# Altium footprint library Pattern No3d 20090609.PcbLib: 323 footprints (part 15 of 22)
Each footprint in its own frame and in the unit in brackets; x right, y up, seen from the top. Pads: shape width x height; smd on the part's side, far side on the other; paste and mask are expansions set on the pad; w line width, h text height; cw(c..) or ccw(c..) is an arc to the next point about the centre after c.
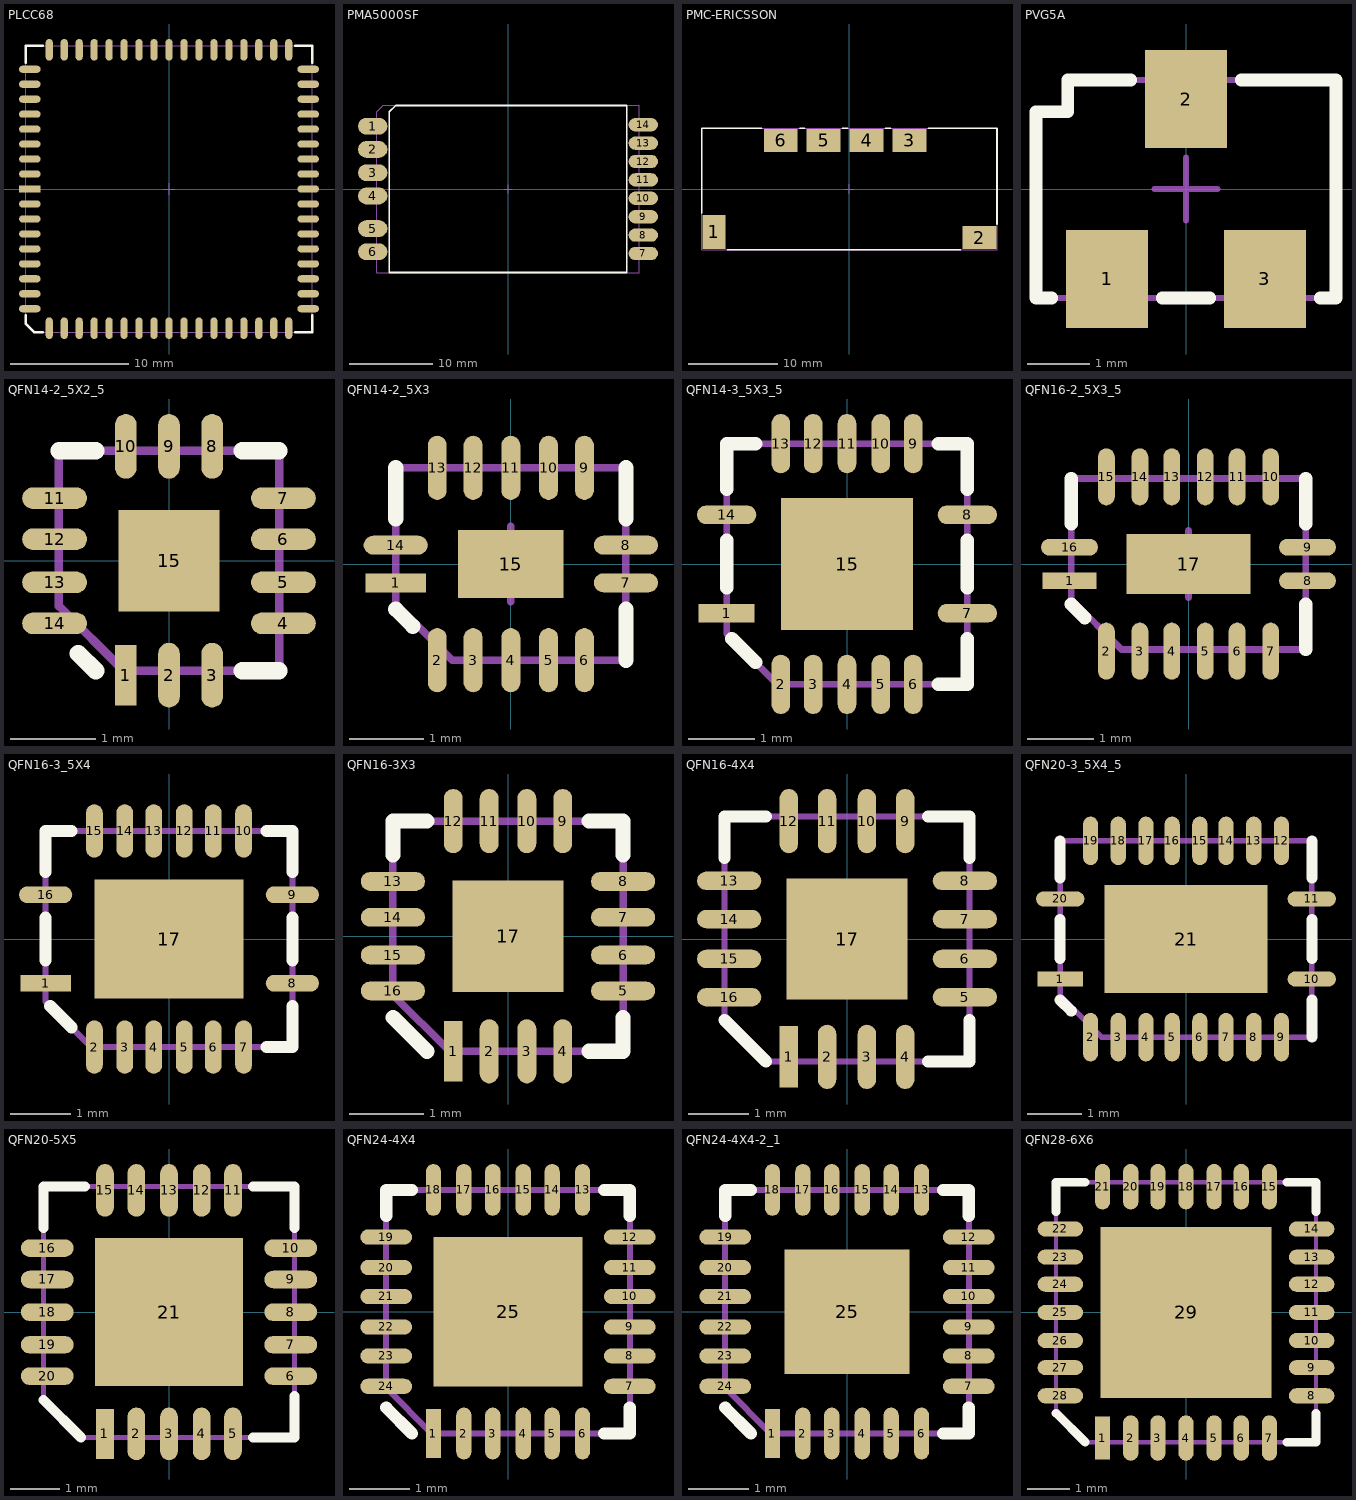
[diagram p14: the footprints below, top view; thin cyan lines are the x and y axes]

## PLCC68 [mil] "http://www.nxp.com/acrobat_download/packages/SOT188-2.pdf"
pads (68):
  rect 72x24 smd mask+4: 1(-465,0)
  oval 72x24 smd mask+4: 2(-465,-50) 3(-465,-100) 4(-465,-150) 5(-465,-200) 6(-465,-250) 7(-465,-300) 8(-465,-350) 9(-465,-400) 27(465,-400) 28(465,-350) 29(465,-300) 30(465,-250) 31(465,-200) 32(465,-150) 33(465,-100) 34(465,-50) 35(465,0) 36(465,50) 37(465,100) 38(465,150) 39(465,200) 40(465,250) 41(465,300) 42(465,350) 43(465,400) 61(-465,400) 62(-465,350) 63(-465,300) 64(-465,250) 65(-465,200) 66(-465,150) 67(-465,100) 68(-465,50)
  oval 24x72 smd mask+4: 10(-400,-465) 11(-350,-465) 12(-300,-465) 13(-250,-465) 14(-200,-465) 15(-150,-465) 16(-100,-465) 17(-50,-465) 18(0,-465) 19(50,-465) 20(100,-465) 21(150,-465) 22(200,-465) 23(250,-465) 24(300,-465) 25(350,-465) 26(400,-465) 44(400,465) 45(350,465) 46(300,465) 47(250,465) 48(200,465) 49(150,465) 50(100,465) 51(50,465) 52(0,465) 53(-50,465) 54(-100,465) 55(-150,465) 56(-200,465) 57(-250,465) 58(-300,465) 59(-350,465) 60(-400,465)
Top Overlay:
  lines w8: -479,-421 -479,-449 -449,-479 -421,-479 ; -479,421 -479,479 -421,479 ; 421,-479 479,-479 479,-421 ; 421,479 479,479 479,421
Mechanical 1:
  lines w4: -479,-449 -479,479 479,479 479,-479 -449,-479 -479,-449
Mechanical 15:
  lines w4: -20,0 20,0 ; 0,-20 0,20

## PMA5000SF [mil] "http://sysdoc.doors.ch/ERICSSON/npo_pma_r1d_0803.pdf"
pads (14):
  oval 139x79 smd mask+4: 1(-640,297) 2(-640,187) 3(-640,77) 4(-640,-33) 5(-640,-187) 6(-640,-297)
  oval 139x63 smd mask+4: 7(640,-305) 8(640,-218) 9(640,-131) 10(640,-44) 11(640,43) 12(640,130) 13(640,217) 14(640,304)
Top Overlay:
  lines w8: -561,-395 561,-395 561,395 -531,395 -561,365 -561,-395
Mechanical 1:
  lines w4: -620,-395 620,-395 620,395 -590,395 -620,365 -620,-395
Mechanical 15:
  lines w4: -20,0 20,0 ; 0,-20 0,20

## PMC-ERICSSON [mil] "http://archive.ericsson.net/service/internet/picov/get?DocNo=28701-EN/LZT146055&Lang=EN&HighestFree=Y"
pads (6):
  rect 102x150 smd mask+4: 1(-600,-190)
  rect 150x102 smd mask+4: 2(576,-215) 3(266,215) 4(76,215) 5(-114,215) 6(-304,215)
Top Overlay:
  lines w8: -654,-106 -654,269 -388,269 ; -540,-269 492,-269 ; -220,269 -198,269 ; -30,269 -8,269 ; 160,269 182,269 ; 350,269 654,269 654,-155
Mechanical 1:
  lines w4: -654,-269 -654,269 654,269 654,-269 -654,-269
Mechanical 15:
  lines w4: -20,0 20,0 ; 0,-20 0,20

## PVG5A [mil] "http://www.murata.com/catalog/r50e.pdf (PVG5A)"
pads (3):
  rect 52x62 smd mask+4: 1(-50,-57) 2(0,57) 3(50,-57)
Top Overlay:
  lines w8: -85,-69 -95,-69 -95,49 -75,49 -75,69 -35,69 ; -15,-69 15,-69 ; 35,69 95,69 95,-69 85,-69
Mechanical 1:
  lines w4: -95,-69 -95,49 -75,49 -75,69 95,69 95,-69 -95,-69
Mechanical 15:
  lines w4: -20,0 20,0 ; 0,-20 0,20

## QFN14-2_5X2_5 [mil] "http://www.nxp.com/acrobat_download/packages/SOT773-1.pdf"
pads (15):
  rect 10x28 smd mask-1000: 1(-20,-53)
  oval 10x30 smd mask-1000: 2(0,-53) 3(20,-53) 8(20,53) 9(0,53) 10(-20,53)
  oval 30x10 smd mask-1000: 4(53,-29) 5(53,-10) 6(53,10) 7(53,29) 11(-53,29) 12(-53,10) 13(-53,-10) 14(-53,-29)
  rect 47x47 smd paste-13 mask+3: 15(0,0)
Top Overlay:
  lines w8: -51,51 -34,51 ; -42,-43 -34,-51 ; 34,-51 51,-51 ; 34,51 51,51
Top Solder:
  region: -29,-35 -29,-71 -13,-71 -13,-35
  lines w13: -65,-10 -41,-10 ; -65,10 -41,10 ; 0,-65 0,-41 ; 0,41 0,65 ; 41,-10 65,-10 ; 41,10 65,10
  lines w15: -64,-30 -42,-30 ; -64,30 -42,30 ; -21,42 -21,64 ; 21,-64 21,-42 ; 21,42 21,64 ; 42,-30 64,-30 ; 42,30 64,30
Mechanical 1:
  lines w4: -51,-21 -21,-51 51,-51 51,51 -51,51 -51,-21
Mechanical 15:
  lines w4: -20,0 20,0 ; 0,-20 0,20

## QFN14-2_5X3 [mil] "http://www.nxp.com/acrobat_download/packages/SOT762-1.pdf"
pads (15):
  rect 32x10 smd mask-1000: 1(-61,-10)
  oval 10x34 smd mask-1000: 2(-39,-51) 3(-20,-51) 4(0,-51) 5(20,-51) 6(39,-51) 9(39,51) 10(20,51) 11(0,51) 12(-20,51) 13(-39,51)
  oval 34x10 smd mask-1000: 7(61,-10) 8(61,10) 14(-61,10)
  rect 56x36 smd paste-1000 mask+3: 15(0,0)
Top Overlay:
  lines w8: -61,-24 -52,-33 ; -61,24 -61,51 ; 61,-51 61,-24 ; 61,24 61,51
Top Paste:
  region: -12,-8 12,-8 12,8 -12,8
Top Solder:
  region: -81,-19 -41,-19 -41,-3 -81,-3
  lines w13: -20,-65 -20,-37 ; -20,37 -20,65 ; 0,-65 0,-37 ; 0,37 0,65 ; 20,-65 20,-37 ; 20,37 20,65
  lines w15: -74,11 -48,11 ; -40,-64 -40,-38 ; -40,38 -40,64 ; 40,-64 40,-38 ; 40,38 40,64 ; 48,-11 74,-11 ; 48,11 74,11
Mechanical 1:
  lines w4: -61,-21 -31,-51 61,-51 61,51 -61,51 -61,-21
Mechanical 15:
  lines w4: -20,0 20,0 ; 0,-20 0,20

## QFN14-3_5X3_5 [mil] "http://focus.ti.com/lit/ml/mpqf114e/mpqf114e.pdf"
pads (15):
  rect 33x11 smd mask+4: 1(-71,-29)
  oval 11x35 smd mask-1000: 2(-39,-71) 3(-20,-71) 4(0,-71) 5(20,-71) 6(39,-71) 9(39,71) 10(20,71) 11(0,71) 12(-20,71) 13(-39,71)
  oval 35x11 smd mask+4: 7(71,-29) 8(71,29) 14(-71,29)
  rect 78x78 smd paste-1000 mask+3: 15(0,0)
Top Overlay:
  lines w8: -71,-14 -71,14 ; -71,44 -71,71 -54,71 ; -68,-44 -54,-58 ; 54,-71 71,-71 71,-44 ; 54,71 71,71 71,44 ; 71,-14 71,14
Top Paste:
  region: -24,-24 -6,-24 -6,-6 -24,-6
  region: 6,-6 6,-24 24,-24 24,-6
  region: 6,24 6,6 24,6 24,24
  region: -24,6 -6,6 -6,24 -24,24
Top Solder:
  lines w14: -20,-85 -20,-57 ; -20,57 -20,85 ; 0,-85 0,-57 ; 0,57 0,85 ; 20,-85 20,-57 ; 20,57 20,85
  lines w15: -40,-85 -40,-57 ; -40,57 -40,85 ; 40,-85 40,-57 ; 40,57 40,85
Mechanical 1:
  lines w4: -71,-41 -71,71 71,71 71,-71 -41,-71 -71,-41
Mechanical 15:
  lines w4: -20,0 20,0 ; 0,-20 0,20

## QFN16-2_5X3_5 [mil] "http://www.nxp.com/acrobat_download/packages/SOT763-1.pdf"
pads (17):
  rect 32x10 smd mask-1000: 1(-71,-10)
  oval 10x34 smd mask-1000: 2(-49,-52) 3(-29,-52) 4(-10,-52) 5(10,-52) 6(29,-52) 7(49,-52) 10(49,52) 11(29,52) 12(10,52) 13(-10,52) 14(-29,52) 15(-49,52)
  oval 34x10 smd mask-1000: 8(71,-10) 9(71,10) 16(-71,10)
  rect 74x36 smd paste-1000 mask+3: 17(0,0)
Top Overlay:
  lines w8: -70,-24 -62,-32 ; -70,24 -70,51 ; 70,-51 70,-24 ; 70,24 70,51
Top Paste:
  region: -22,8 -22,-8 -6,-8 -6,8
  region: 6,8 6,-8 22,-8 22,8
Top Solder:
  region: -91,-19 -51,-19 -51,-3 -91,-3
  lines w13: -29,-66 -29,-38 ; -29,38 -29,66 ; -10,-66 -10,-38 ; -10,38 -10,66 ; 10,-66 10,-38 ; 10,38 10,66 ; 29,-66 29,-38 ; 29,38 29,66
  lines w15: -84,11 -58,11 ; -50,-65 -50,-39 ; -50,39 -50,65 ; 50,-65 50,-39 ; 50,39 50,65 ; 58,-11 84,-11 ; 58,11 84,11
Mechanical 1:
  lines w4: -70,-21 -70,51 70,51 70,-51 -40,-51 -70,-21
Mechanical 15:
  lines w4: -20,0 20,0 ; 0,-20 0,20

## QFN16-3_5X4 [mil] "http://focus.ti.com/lit/ml/mpqf115e/mpqf115e.pdf"
pads (17):
  rect 33x11 smd mask+4: 1(-81,-29)
  oval 11x35 smd mask-1000: 2(-49,-71) 3(-29,-71) 4(-10,-71) 5(10,-71) 6(29,-71) 7(49,-71) 10(49,71) 11(29,71) 12(10,71) 13(-10,71) 14(-29,71) 15(-49,71)
  oval 35x11 smd mask+4: 8(81,-29) 9(81,29) 16(-81,29)
  rect 98x78 smd paste-1000 mask+3: 17(0,0)
Top Overlay:
  lines w8: -81,-14 -81,14 ; -81,44 -81,71 -64,71 ; -78,-44 -64,-58 ; 64,-71 81,-71 81,-44 ; 64,71 81,71 81,44 ; 81,-14 81,14
Top Paste:
  region: -30,-24 -8,-24 -8,-6 -30,-6
  region: 8,-24 30,-24 30,-6 8,-6
  region: 8,6 30,6 30,24 8,24
  region: -30,6 -8,6 -8,24 -30,24
Top Solder:
  lines w13: -29,-86 -29,-56 ; -29,56 -29,86 ; -10,-86 -10,-56 ; -10,56 -10,86 ; 10,-86 10,-56 ; 10,56 10,86 ; 29,-86 29,-56 ; 29,56 29,86
  lines w15: -50,-85 -50,-57 ; -50,57 -50,85 ; 50,-85 50,-57 ; 50,57 50,85
Mechanical 1:
  lines w4: -81,-41 -51,-71 81,-71 81,71 -81,71 -81,-41
Mechanical 15:
  lines w4: -20,0 20,0 ; 0,-20 0,20

## QFN16-3X3 [mil] "http://www.nxp.com/acrobat_download/packages/SOT758-1.pdf"
pads (17):
  rect 10x32 smd mask-1000: 1(-29,-61)
  oval 10x34 smd mask-1000: 2(-10,-61) 3(10,-61) 4(29,-61) 9(29,61) 10(10,61) 11(-10,61) 12(-29,61)
  oval 34x10 smd mask-1000: 5(61,-29) 6(61,-10) 7(61,10) 8(61,29) 13(-61,29) 14(-61,10) 15(-61,-10) 16(-61,-29)
  rect 59x59 smd paste-1000 mask+3: 17(0,0)
Top Overlay:
  lines w8: -61,-43 -43,-61 ; -61,43 -61,61 -43,61 ; 43,-61 61,-61 61,-43 ; 43,61 61,61 61,43
Top Paste:
  region: -13,13 -13,-13 13,-13 13,13
Top Solder:
  region: -22,-81 -22,-41 -38,-41 -38,-81
  lines w13: -75,-10 -47,-10 ; -75,10 -47,10 ; -10,-75 -10,-47 ; -10,47 -10,75 ; 10,-75 10,-47 ; 10,47 10,75 ; 47,-10 75,-10 ; 47,10 75,10
  lines w15: -74,-30 -48,-30 ; -74,30 -48,30 ; -30,48 -30,74 ; 30,-74 30,-48 ; 30,48 30,74 ; 48,-30 74,-30 ; 48,30 74,30
Mechanical 1:
  lines w4: -61,-31 -61,61 61,61 61,-61 -31,-61 -61,-31
Mechanical 15:
  lines w4: -20,0 20,0 ; 0,-20 0,20

## QFN16-4X4 [mil] "http://www.nxp.com/acrobat_download/packages/SOT629-1.pdf"
pads (17):
  rect 12x40 smd mask+3: 1(-38,-77)
  oval 12x42 smd mask+3: 2(-13,-77) 3(13,-77) 4(38,-77) 9(38,77) 10(13,77) 11(-13,77) 12(-38,77)
  oval 42x12 smd mask+3: 5(77,-38) 6(77,-13) 7(77,13) 8(77,38) 13(-77,38) 14(-77,13) 15(-77,-13) 16(-77,-38)
  rect 79x79 smd paste-1000 mask+3: 17(0,0)
Top Overlay:
  lines w8: -80,-53 -53,-80 ; -80,53 -80,80 -53,80 ; 53,-80 80,-80 80,-53 ; 53,80 80,80 80,53
Top Paste:
  region: -24,-24 -6,-24 -6,-6 -24,-6
  region: 6,-24 24,-24 24,-6 6,-6
  region: 6,6 24,6 24,24 6,24
  region: -24,6 -6,6 -6,24 -24,24
Mechanical 1:
  lines w4: -80,-50 -50,-80 80,-80 80,80 -80,80 -80,-50
Mechanical 15:
  lines w4: -20,0 20,0 ; 0,-20 0,20

## QFN20-3_5X4_5 [mil] "http://focus.ti.com/lit/ml/mpqf116e/mpqf116e.pdf"
pads (21):
  rect 33x11 smd mask+4: 1(-91,-29)
  oval 11x35 smd mask-1000: 2(-69,-71) 3(-49,-71) 4(-29,-71) 5(-10,-71) 6(10,-71) 7(29,-71) 8(49,-71) 9(69,-71) 12(69,71) 13(49,71) 14(29,71) 15(10,71) 16(-10,71) 17(-29,71) 18(-49,71) 19(-69,71)
  oval 35x11 smd mask+4: 10(91,-29) 11(91,29) 20(-91,29)
  rect 118x78 smd paste-1000 mask+3: 21(0,0)
Top Overlay:
  lines w8: -91,-44 -83,-52 ; -91,-14 -91,14 ; -91,44 -91,71 ; 91,-71 91,-44 ; 91,-14 91,14 ; 91,44 91,71
Top Paste:
  region: -34,6 -8,6 -8,22 -34,22
  region: 8,6 34,6 34,22 8,22
  region: -34,-22 -8,-22 -8,-6 -34,-6
  region: 8,-22 34,-22 34,-6 8,-6
Top Solder:
  lines w13: -49,-86 -49,-56 ; -49,56 -49,86 ; -29,-86 -29,-56 ; -29,56 -29,86 ; -10,-86 -10,-56 ; -10,56 -10,86 ; 10,-86 10,-56 ; 10,56 10,86 ; 29,-86 29,-56 ; 29,56 29,86 ; 49,-86 49,-56 ; 49,56 49,86
  lines w15: -70,-85 -70,-57 ; -70,57 -70,85 ; 70,-85 70,-57 ; 70,57 70,85
Mechanical 1:
  lines w4: -91,-41 -61,-71 91,-71 91,71 -91,71 -91,-41
Mechanical 15:
  lines w4: -20,0 20,0 ; 0,-20 0,20

## QFN20-5X5 [mil] "http://www.nxp.com/acrobat_download/packages/SOT662-1.pdf"
pads (21):
  rect 14x40 smd mask-1000: 1(-51,-97)
  oval 14x42 smd mask-1000: 2(-26,-97) 3(0,-97) 4(26,-97) 5(51,-97) 11(51,97) 12(26,97) 13(0,97) 14(-26,97) 15(-51,97)
  oval 42x14 smd mask-1000: 6(97,-51) 7(97,-26) 8(97,0) 9(97,26) 10(97,51) 16(-97,51) 17(-97,26) 18(-97,0) 19(-97,-26) 20(-97,-51)
  rect 118x118 smd paste-1000 mask+3: 21(0,0)
Top Overlay:
  lines w8: -100,-70 -70,-100 ; -100,67 -100,100 -67,100 ; 67,-100 100,-100 100,-67 ; 67,100 100,100 100,67
Top Paste:
  region: -35,9 -9,9 -9,35 -35,35
  region: 9,9 35,9 35,35 9,35
  region: 9,-35 35,-35 35,-9 9,-9
  region: -35,-35 -9,-35 -9,-9 -35,-9
Top Solder:
  region: -42,-121 -42,-73 -62,-73 -62,-121
  lines w18: -113,-26 -81,-26 ; -113,0 -81,0 ; -113,26 -81,26 ; -26,-113 -26,-81 ; -26,81 -26,113 ; 0,-113 0,-81 ; 0,81 0,113 ; 26,-113 26,-81 ; 26,81 26,113 ; 81,-26 113,-26 ; 81,0 113,0 ; 81,26 113,26
  lines w20: -112,-52 -82,-52 ; -112,52 -82,52 ; -52,82 -52,112 ; 52,-112 52,-82 ; 52,82 52,112 ; 82,-52 112,-52 ; 82,52 112,52
Mechanical 1:
  lines w4: -100,-70 -100,100 100,100 100,-100 -70,-100 -100,-70
Mechanical 15:
  lines w4: -20,0 20,0 ; 0,-20 0,20

## QFN24-4X4 [mil] "http://www.nxp.com/acrobat_download/packages/SOT616-3.pdf"
pads (25):
  rect 10x32 smd mask-1000: 1(-49,-80)
  oval 10x34 smd mask-1000: 2(-29,-80) 3(-10,-80) 4(10,-80) 5(29,-80) 6(49,-80) 13(49,80) 14(29,80) 15(10,80) 16(-10,80) 17(-29,80) 18(-49,80)
  oval 34x10 smd mask-1000: 7(80,-49) 8(80,-29) 9(80,-10) 10(80,10) 11(80,29) 12(80,49) 19(-80,49) 20(-80,29) 21(-80,10) 22(-80,-10) 23(-80,-29) 24(-80,-49)
  rect 98x98 smd paste-1000 mask+3: 25(0,0)
Top Overlay:
  lines w8: -80,-63 -63,-80 ; -80,63 -80,80 -63,80 ; 63,-80 80,-80 80,-63 ; 63,80 80,80 80,63
Top Paste:
  region: -28,6 -6,6 -6,28 -28,28
  region: 6,6 28,6 28,28 6,28
  region: 6,-28 28,-28 28,-6 6,-6
  region: -28,-28 -6,-28 -6,-6 -28,-6
Top Solder:
  region: -42,-100 -42,-60 -58,-60 -58,-100
  lines w13: -94,-29 -66,-29 ; -94,-10 -66,-10 ; -94,10 -66,10 ; -94,29 -66,29 ; -29,-94 -29,-66 ; -29,66 -29,94 ; -10,-94 -10,-66 ; -10,66 -10,94 ; 10,-94 10,-66 ; 10,66 10,94 ; 29,-94 29,-66 ; 29,66 29,94 ; 66,-29 94,-29 ; 66,-10 94,-10 ; 66,10 94,10 ; 66,29 94,29
  lines w15: -93,-50 -67,-50 ; -93,50 -67,50 ; -50,67 -50,93 ; 50,-93 50,-67 ; 50,67 50,93 ; 67,-50 93,-50 ; 67,50 93,50
Mechanical 1:
  lines w4: -80,-50 -80,80 80,80 80,-80 -50,-80 -80,-50
Mechanical 15:
  lines w4: -20,0 20,0 ; 0,-20 0,20

## QFN24-4X4-2_1 [mil] "http://www.nxp.com/acrobat_download/packages/SOT616-1.pdf"
pads (25):
  rect 10x32 smd mask-1000: 1(-49,-80)
  oval 10x34 smd mask-1000: 2(-29,-80) 3(-10,-80) 4(10,-80) 5(29,-80) 6(49,-80) 13(49,80) 14(29,80) 15(10,80) 16(-10,80) 17(-29,80) 18(-49,80)
  oval 34x10 smd mask-1000: 7(80,-49) 8(80,-29) 9(80,-10) 10(80,10) 11(80,29) 12(80,49) 19(-80,49) 20(-80,29) 21(-80,10) 22(-80,-10) 23(-80,-29) 24(-80,-49)
  rect 82x82 smd paste-1000 mask+3: 25(0,0)
Top Overlay:
  lines w8: -80,-63 -63,-80 ; -80,63 -80,80 -63,80 ; 63,-80 80,-80 80,-63 ; 63,80 80,80 80,63
Top Paste:
  region: -24,-24 -6,-24 -6,-6 -24,-6
  region: 6,-24 24,-24 24,-6 6,-6
  region: 6,6 24,6 24,24 6,24
  region: -24,6 -6,6 -6,24 -24,24
Top Solder:
  region: -42,-100 -42,-60 -58,-60 -58,-100
  lines w13: -94,-29 -66,-29 ; -94,-10 -66,-10 ; -94,10 -66,10 ; -94,29 -66,29 ; -29,-94 -29,-66 ; -29,66 -29,94 ; -10,-94 -10,-66 ; -10,66 -10,94 ; 10,-94 10,-66 ; 10,66 10,94 ; 29,-94 29,-66 ; 29,66 29,94 ; 66,-29 94,-29 ; 66,-10 94,-10 ; 66,10 94,10 ; 66,29 94,29
  lines w15: -93,-50 -67,-50 ; -93,50 -67,50 ; -50,67 -50,93 ; 50,-93 50,-67 ; 50,67 50,93 ; 67,-50 93,-50 ; 67,50 93,50
Mechanical 1:
  lines w4: -80,-50 -80,80 80,80 80,-80 -50,-80 -80,-50
Mechanical 15:
  lines w4: -20,0 20,0 ; 0,-20 0,20

## QFN28-6X6 [mil] "http://www.nxp.com/acrobat_download/packages/SOT788-1.pdf"
pads (29):
  rect 14x40 smd mask-1000: 1(-77,-116)
  oval 14x42 smd mask-1000: 2(-51,-116) 3(-26,-116) 4(0,-116) 5(26,-116) 6(51,-116) 7(77,-116) 15(77,116) 16(51,116) 17(26,116) 18(0,116) 19(-26,116) 20(-51,116) 21(-77,116)
  oval 42x14 smd mask-1000: 8(116,-77) 9(116,-51) 10(116,-26) 11(116,0) 12(116,26) 13(116,51) 14(116,77) 22(-116,77) 23(-116,51) 24(-116,26) 25(-116,0) 26(-116,-26) 27(-116,-51) 28(-116,-77)
  rect 158x158 smd paste-1000 mask+3: 29(0,0)
Top Overlay:
  lines w8: -120,-93 -93,-120 ; -120,93 -120,120 -93,120 ; 93,-120 120,-120 120,-93 ; 93,120 120,120 120,93
Top Paste:
  region: -48,-48 -24,-48 -24,-24 -48,-24
  region: -12,-48 12,-48 12,-24 -12,-24
  region: -12,-12 12,-12 12,12 -12,12
  region: -48,-12 -24,-12 -24,12 -48,12
  region: 24,-48 48,-48 48,-24 24,-24
  region: 24,-12 48,-12 48,12 24,12
  region: 24,24 48,24 48,48 24,48
  region: -12,24 12,24 12,48 -12,48
  region: -48,24 -24,24 -24,48 -48,48
Top Solder:
  region: -68,-140 -68,-92 -88,-92 -88,-140
  lines w18: -132,-51 -100,-51 ; -132,-26 -100,-26 ; -132,0 -100,0 ; -132,26 -100,26 ; -132,51 -100,51 ; -51,-132 -51,-100 ; -51,100 -51,132 ; -26,-132 -26,-100 ; -26,100 -26,132 ; 0,-132 0,-100 ; 0,100 0,132 ; 26,-132 26,-100 ; 26,100 26,132 ; 51,-132 51,-100 ; 51,100 51,132 ; 100,-51 132,-51 ; 100,-26 132,-26 ; 100,0 132,0 ; 100,26 132,26 ; 100,51 132,51
  lines w20: -131,-78 -101,-78 ; -131,78 -101,78 ; -78,101 -78,131 ; 78,-131 78,-101 ; 78,101 78,131 ; 101,-78 131,-78 ; 101,78 131,78
Mechanical 1:
  lines w4: -120,-90 -90,-120 120,-120 120,120 -120,120 -120,-90
Mechanical 15:
  lines w4: -20,0 20,0 ; 0,-20 0,20